# Altium integrated library SILABS_Sensors.IntLib: 2 symbols
Pins are listed as number, name and electrical type; pins without a type are passive.

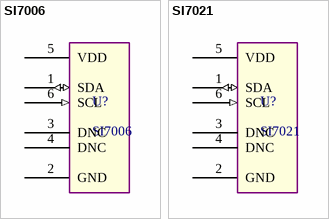
[diagram p0: symbols SI7006 to SI7021]

## SI7006
designator U?
I2C HUMIDITY AND TEMPERATURE SENSOR; Supplier 1: Mouser; Supplier Part Number 1: 634-SI7006-A20-IM; ComponentLink1URL: https://www.silabs.com/documents/public/data-sheets/Si7006-A20.pdf; ComponentLink1Description: Datasheet for SI7006
footprint SON100P300X300X75-7_150X240 (IPC-7351C)
pins: 1 SDA (io) "I2C data", 2 GND (power) "Ground. This pin is connected to ground on the circuit board through a trace. Do not  connect directly to GND plane.", 3 DNC "These pins should be soldered to pads on the PCB for mechanical stability; they can be  electrically floating or tied to VDD (do not tie to GND).", 4 DNC "These pins should be soldered to pads on the PCB for mechanical stability; they can be  electrically floating or tied to VDD (do not tie to GND).", 5 VDD (power) "Power. This pin is connected to power on the circuit board.", 6 SCL (in) "I2C clock", Paddle TGND hidden "This pad is connected to GND internally. This pad is the main thermal input to the onchip  temperature sensor. The paddle should be soldered to a floating pad."

## SI7021
designator U?
I2C HUMIDITY AND TEMPERATURE SENSOR; ComponentLink1Description: Datasheet; ComponentLink1URL: https://www.silabs.com/documents/public/data-sheets/Si7021-A20.pdf; Supplier 1: Mouser; Supplier Part Number 1: 634-SI7021-A20-GM
footprint SON100P300X300X75-7_150X240 (IPC-7351C)
pins: 1 SDA (io) "I2C data", 2 GND (power) "Ground. This pin is connected to ground on the circuit board through a trace. Do not  connect directly to GND plane.", 3 DNC "These pins should be soldered to pads on the PCB for mechanical stability; they can be  electrically floating or tied to VDD (do not tie to GND).", 4 DNC "These pins should be soldered to pads on the PCB for mechanical stability; they can be  electrically floating or tied to VDD (do not tie to GND).", 5 VDD (power) "Power. This pin is connected to power on the circuit board.", 6 SCL (in) "I2C clock", Paddle TGND hidden "This pad is connected to GND internally. This pad is the main thermal input to the onchip  temperature sensor. The paddle should be soldered to a floating pad."